# Altium schematic symbol library rt9193.SchLib: 1 symbol
Pins are listed as number, name and electrical type; pins without a type are passive.

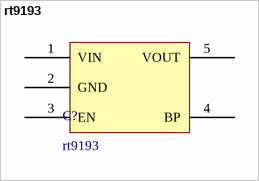
[diagram p0: symbol rt9193]

## rt9193
designator C?
pins: 1 VIN, 2 GND, 3 EN, 4 BP, 5 VOUT